# Altium schematic symbol library connector.SchLib: 18 symbols
Pins are listed as number, name and electrical type; pins without a type are passive.

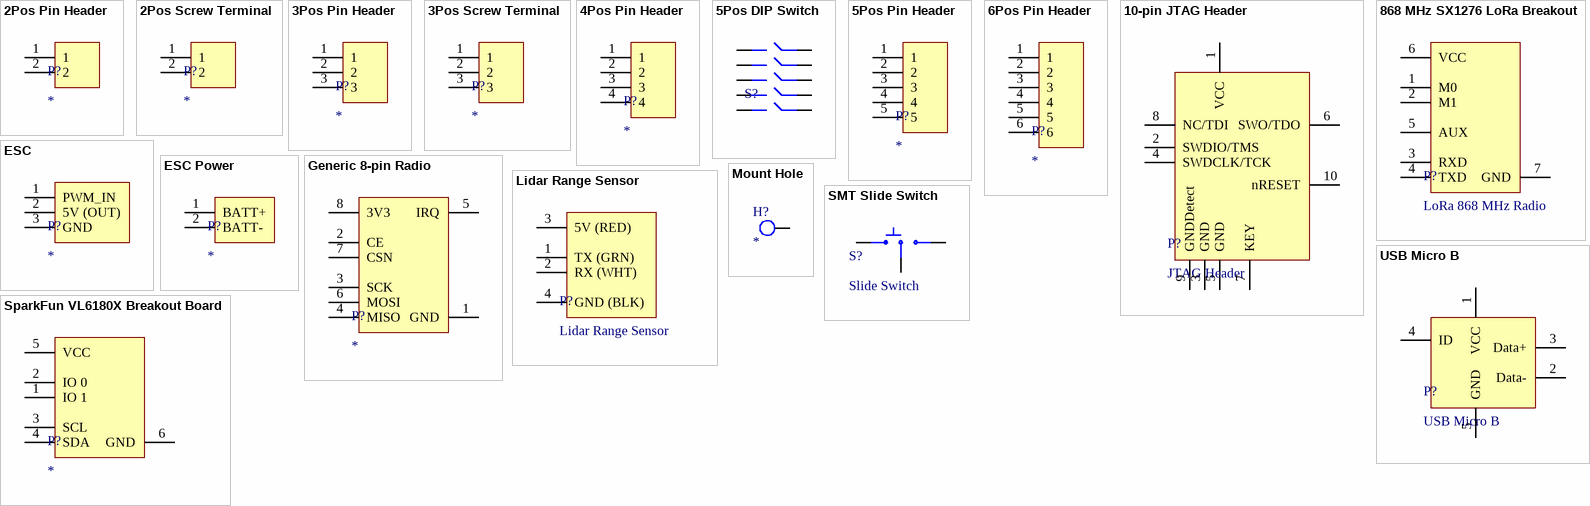
[diagram p0: symbols 2Pos Pin Header to USB Micro B]

## 2Pos Pin Header
designator P?
0.1" Pitch 1x2
footprint 2Pos Pin Header F (Female, 0.1" Pitch)
footprint 2Pos Pin Header M (Female, 0.1" Pitch)
footprint 2Pos Pin Header F RA L (Female, 0.1" Pitch)
footprint 2Pos Pin Header F RA R (Female, 0.1" Pitch)
footprint 2Pos Pin Header JST (Female, 0.1" Pitch)
pins: 1, 2

## 2Pos Screw Terminal
designator P?
0.2" Pitch 1x2
footprint 2Pos Screw Terminal (0.2" Pitch)
pins: 1, 2

## 3Pos Pin Header
designator P?
0.1" Pitch 1x3
footprint 3Pos Pin Header M (Male, 0.1" Pitch)
footprint 3Pos Pin Header F RA L (Female, 0.1" Pitch)
footprint 3Pos Pin Header F RA R (Female, 0.1" Pitch)
footprint 3Pos Pin Header JST (Male, 0.1" Pitch)
pins: 1, 2, 3

## 3Pos Screw Terminal
designator P?
0.2" Pitch 1x3
footprint 3Pos Screw Terminal (0.2" Pitch)
pins: 1, 2, 3

## 4Pos Pin Header
designator P?
0.1" Pitch 1x4
footprint 4Pos Pin Header JST (Male, 0.1" Pitch)
pins: 1, 2, 3, 4

## 5Pos DIP Switch
designator S?
5 Position 0.1" SMT Dip Switch; Supplier 1: Digi-Key; Supplier Part Number 1: CT2195LPST-ND
footprint DIP-SW-5 (5 0.1" Pitch SMT Dip Switches)
pins: 1, 2, 3, 4, 5, 6, 7, 8, 9, 10

## 5Pos Pin Header
designator P?
0.1" Pitch 1x5
footprint 5Pos Pin Header JST (Male, 0.1" Pitch)
pins: 1, 2, 3, 4, 5

## 6Pos Pin Header
designator P?
0.1" Pitch 1x6
footprint 6Pos Pin Header JST (Male, 0.1" Pitch)
pins: 1, 2, 3, 4, 5, 6

## 10-pin JTAG Header
designator P?, comment JTAG Header
Supplier 1: Arrow; Supplier Part Number 1: 3220-10-0300-00; ComponentLink1Description: Pinout; ComponentLink1URL: http://infocenter.arm.com/help/topic/com.arm.doc.faqs/attached/13634/cortex_debug_connectors.pdf
footprint SMD Header 5x2x1.27mm
pins: 1 VCC, 2 SWDIO/TMS, 3 GND, 4 SWDCLK/TCK, 5 GND, 6 SWO/TDO, 7 KEY, 8 NC/TDI, 9 GNDDetect, 10 nRESET

## 868 MHz SX1276 LoRa Breakout
designator P?, comment LoRa 868 MHz Radio
UART Interface, 0.1" Pitch, E32 (868T20D) chipset; ComponentLink1Description: Amazon; ComponentLink1URL: https://www.amazon.com/gp/product/B07GPLJTWD/
footprint LoRa Breakout (0.1" Pitch)
pins: 1 M0, 2 M1, 3 RXD, 4 TXD, 5 AUX, 6 VCC, 7 GND

## ESC
designator P?
PWM Interface, 0.1" Pitch 1x3; ComponentLink1Description: ESC + Motor Combo (Amazon); ComponentLink1URL: https://www.amazon.com/Hobbypower-1000kv-Brushless-Multicopter-Quadcopter/dp/B00E7LG85O/
footprint ESC (0.1" Pitch)
footprint ESC RA (Male, 0.1" Pitch)
pins: 1 PWM_IN, 2 5V (OUT), 3 GND

## ESC Power
designator P?
0.2" Pitch 1x2
footprint 2Pos Screw Terminal (0.2" Pitch)
pins: 1 BATT+, 2 BATT-

## Generic 8-pin Radio
designator P?
SPI Interface, 0.1" Pitch 2x4; ComponentLink1Description: 2.4 GHz Ext. Ant. 2300M (Amazon); ComponentLink1URL: https://www.amazon.com/gp/product/B07BNDKFXP/; ComponentLink2Description: 2.4 GHz Ext. Ant 1100M (Amazon); ComponentLink2URL: https://www.amazon.com/gp/product/B01IK78PQA/
footprint 2x4 Radio (SPI Interface)
pins: 1 GND, 2 CE, 3 SCK, 4 MISO, 5 IRQ, 6 MOSI, 7 CSN, 8 3V3

## Lidar Range Sensor
designator P?
ComponentLink1Description: Amazon; ComponentLink1URL: https://www.amazon.com/gp/product/B075V5TZRY/; Supplier 1: Digi-Key; Supplier Part Number 1: H2201-ND
footprint 4x1 Shrouded Header 1.25mm (1.25mm Pitch)
pins: 1 TX (GRN), 2 RX (WHT), 3 5V (RED), 4 GND (BLK)

## Mount Hole
designator H?
footprint m2 Mount Hole (4mm)
footprint 7mm Mount Hole (7mm)
footprint 6mm Mount Hole (6mm)
footprint 4mm Mount Hole (4mm)
pins: H

## SMT Slide Switch
designator S?, comment Slide Switch
2mm Pitch; Supplier 1: Digi-Key; Supplier Part Number 1: 360-2924-1-ND
footprint SMT Slide Switch RA (2mm Pitch)
pins: 1 L, 2 COM, 3 R

## SparkFun VL6180X Breakout Board
designator P?
I2C Interface, 0.1" Pitch 1x6; ComponentLink1Description: SparkFun; ComponentLink1URL: https://www.sparkfun.com/products/12785
footprint VL6180X Breakout (0.1"" Pitch)
pins: 1 IO 1, 2 IO 0, 3 SCL, 4 SDA, 5 VCC, 6 GND

## USB Micro B
designator P?
Supplier 1: Digi-Key; Supplier Part Number 1: 609-4616-6-ND; ComponentLink1Description: Pinout; ComponentLink1URL: http://pinouts.ru/PortableDevices/micro_usb_pinout.shtml
footprint USB Micro B
pins: 1 VCC, 2 Data-, 3 Data+, 4 ID, 5 GND